# Altium schematic symbol library buck_automotive.SchLib: 5 symbols
Pins are listed as number, name and electrical type; pins without a type are passive.

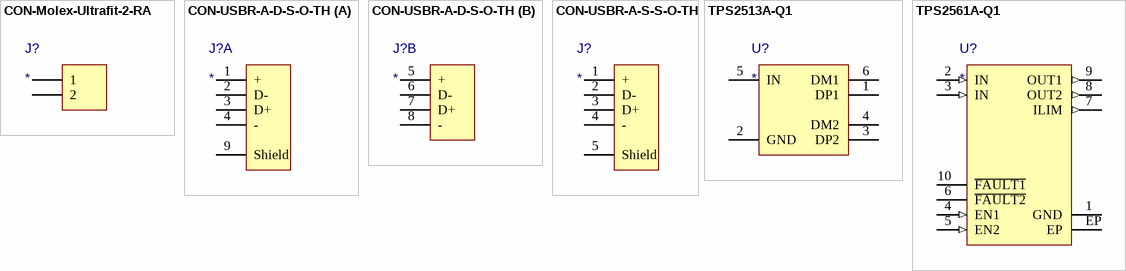
[diagram p0: symbols CON-Molex-Ultrafit-2-RA to TPS2561A-Q1]

## CON-Molex-Ultrafit-2-RA
designator J?
Molex Ultrafit 2 pin Right-angle
footprint CON-MOLEX-ULTRAFIT-172310-1X02 (Molex Ultra-Fit 2 pin, right angleblack)
pins: 1, 2

## CON-USBR-A-D-S-O-TH
designator J?
Samtec USBR-A-D-S-O-TH
footprint CON-USBR-A-D-S-O-TH (Samtec USBR-A-D-S-O-TH)
part A pins: 1 +, 2 D-, 3 D+, 4 -, 9 Shield
part B pins: 5 +, 6 D-, 7 D+, 8 -

## CON-USBR-A-S-S-O-TH
designator J?
Samtec USBR-A-S-S-O-TH
footprint CON-USBR-A-S-S-O-TH (Samtec USBR-A-S-S-O-TH)
pins: 1 +, 2 D-, 3 D+, 4 -, 5 Shield

## TPS2513A-Q1
designator U?
TPS2513A-Q1 USB Dedicated Charging Port Controller
footprint SOT23-6P95_300X305X145L60 (SOT23-6 (TI DBV0006A))
pins: 1 DP1, 2 GND, 3 DP2, 4 DM2, 5 IN, 6 DM1

## TPS2561A-Q1
designator U?
TPS2561A-Q1 Dual Channel Precision Automotive Adjustable Current-Limited Power Switches
footprint SON50P300X300X100-10-EP_TI-DRC010J (SON, 0.5mm Pitch, 3mm x 3mm, 1.0mm Height, 10 Pin, Exposed Pad (TI DRC010J))
pins: 1 GND, 2 IN (in), 3 IN (in), 4 EN1 (in), 5 EN2 (in), 6 ~{FAULT2} (oc), 7 ILIM (out), 8 OUT2 (out), 9 OUT1 (out), 10 ~{FAULT1} (oc), EP